# EAGLE library part SAM4EXE (library borkedlabs-micros)
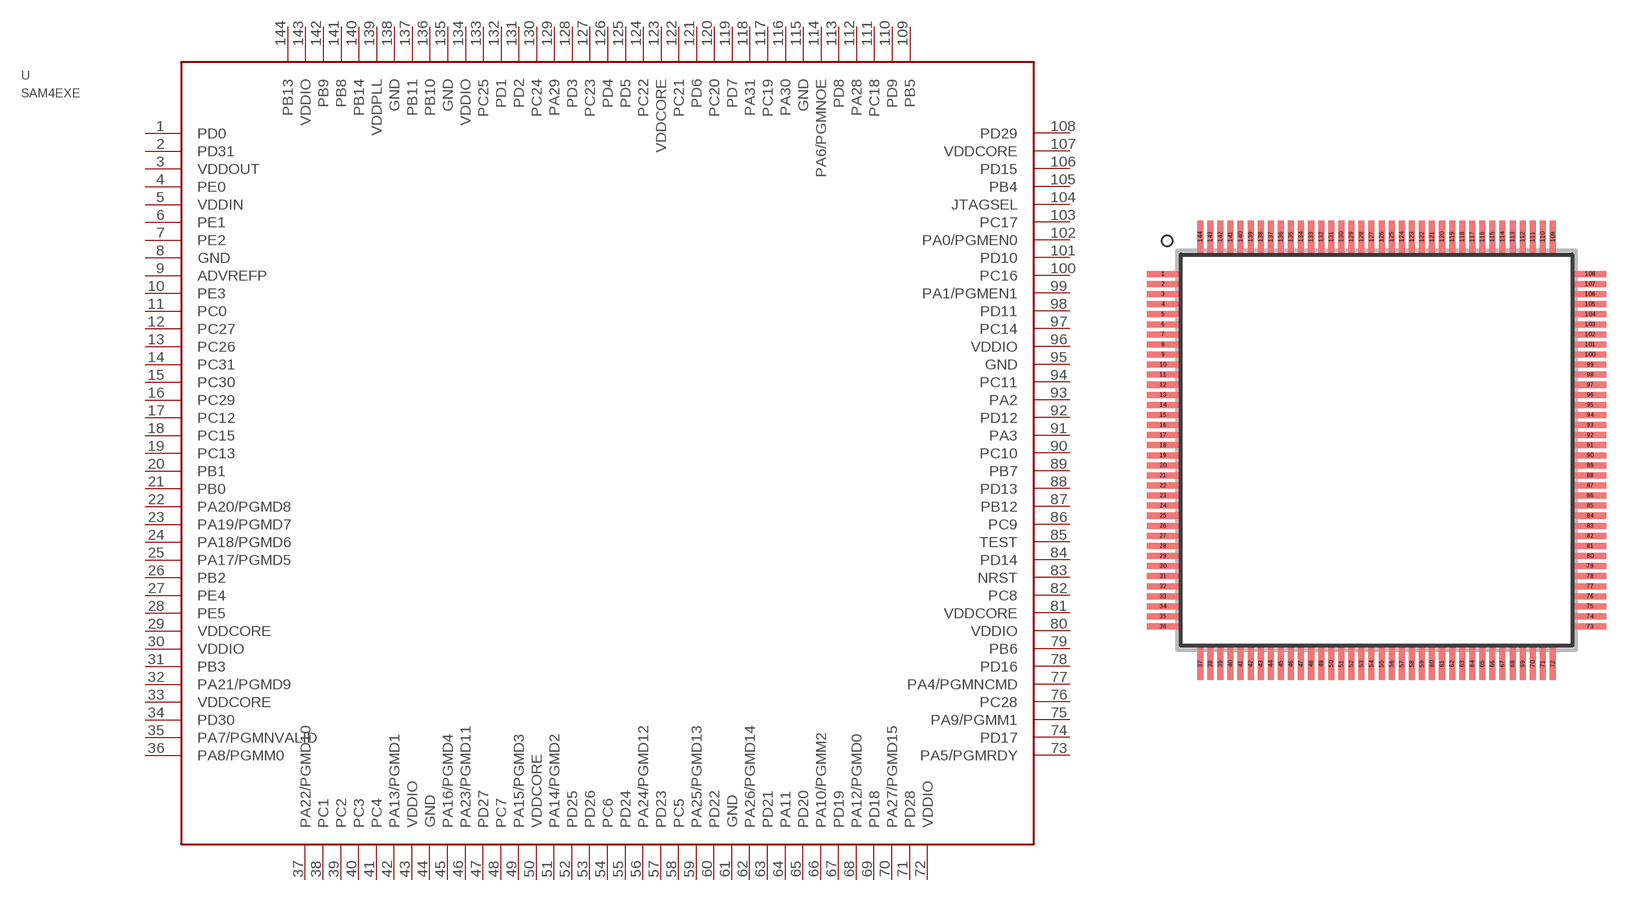
[diagram p7: symbol with the pads of LQFP144; footprint LQFP144]

Designator prefix U

## SAM4EXE  [LQFP144]
1  PD0
2  PD31
3  VDDOUT
4  PE0
5  VDDIN
6  PE1
7  PE2
8  GND
9  ADVREFP
10  PE3
11  PC0
12  PC27
13  PC26
14  PC31
15  PC30
16  PC29
17  PC12
18  PC15
19  PC13
20  PB1
21  PB0
22  PA20/PGMD8
23  PA19/PGMD7
24  PA18/PGMD6
25  PA17/PGMD5
26  PB2
27  PE4
28  PE5
29  VDDCORE
30  VDDIO
31  PB3
32  PA21/PGMD9
33  VDDCORE
34  PD30
35  PA7/PGMNVALID
36  PA8/PGMM0
37  PA22/PGMD10
38  PC1
39  PC2
40  PC3
41  PC4
42  PA13/PGMD1
43  VDDIO
44  GND
45  PA16/PGMD4
46  PA23/PGMD11
47  PD27
48  PC7
49  PA15/PGMD3
50  VDDCORE
51  PA14/PGMD2
52  PD25
53  PD26
54  PC6
55  PD24
56  PA24/PGMD12
57  PD23
58  PC5
59  PA25/PGMD13
60  PD22
61  GND
62  PA26/PGMD14
63  PD21
64  PA11
65  PD20
66  PA10/PGMM2
67  PD19
68  PA12/PGMD0
69  PD18
70  PA27/PGMD15
71  PD28
72  VDDIO
73  PA5/PGMRDY
74  PD17
75  PA9/PGMM1
76  PC28
77  PA4/PGMNCMD
78  PD16
79  PB6
80  VDDIO
81  VDDCORE
82  PC8
83  NRST
84  PD14
85  TEST
86  PC9
87  PB12
88  PD13
89  PB7
90  PC10
91  PA3
92  PD12
93  PA2
94  PC11
95  GND
96  VDDIO
97  PC14
98  PD11
99  PA1/PGMEN1
100  PC16
101  PD10
102  PA0/PGMEN0
103  PC17
104  JTAGSEL
105  PB4
106  PD15
107  VDDCORE
108  PD29
109  PB5
110  PD9
111  PC18
112  PA28
113  PD8
114  PA6/PGMNOE
115  GND
116  PA30
117  PC19
118  PA31
119  PD7
120  PC20
121  PD6
122  PC21
123  VDDCORE
124  PC22
125  PD5
126  PD4
127  PC23
128  PD3
129  PA29
130  PC24
131  PD2
132  PD1
133  PC25
134  VDDIO
135  GND
136  PB10
137  PB11
138  GND
139  VDDPLL
140  PB14
141  PB8
142  PB9
143  VDDIO
144  PB13

## Footprint LQFP144 (pad centres in mm)
smd 1.6 x 0.3: 1 -10.6,8.75; 2 -10.6,8.25; 3 -10.6,7.75; 4 -10.6,7.25; 5 -10.6,6.75; 6 -10.6,6.25; 7 -10.6,5.75; 8 -10.6,5.25; 9 -10.6,4.75; 10 -10.6,4.25; 11 -10.6,3.75; 12 -10.6,3.25; 13 -10.6,2.75; 14 -10.6,2.25; 15 -10.6,1.75; 16 -10.6,1.25; 17 -10.6,0.75; 18 -10.6,0.25; 19 -10.6,-0.25; 20 -10.6,-0.75; 21 -10.6,-1.25; 22 -10.6,-1.75; 23 -10.6,-2.25; 24 -10.6,-2.75; 25 -10.6,-3.25; 26 -10.6,-3.75; 27 -10.6,-4.25; 28 -10.6,-4.75; 29 -10.6,-5.25; 30 -10.6,-5.75; 31 -10.6,-6.25; 32 -10.6,-6.75; 33 -10.6,-7.25; 34 -10.6,-7.75; 35 -10.6,-8.25; 36 -10.6,-8.75; 73 10.6,-8.75; 74 10.6,-8.25; 75 10.6,-7.75; 76 10.6,-7.25; 77 10.6,-6.75; 78 10.6,-6.25; 79 10.6,-5.75; 80 10.6,-5.25; 81 10.6,-4.75; 82 10.6,-4.25; 83 10.6,-3.75; 84 10.6,-3.25; 85 10.6,-2.75; 86 10.6,-2.25; 87 10.6,-1.75; 88 10.6,-1.25; 89 10.6,-0.75; 90 10.6,-0.25; 91 10.6,0.25; 92 10.6,0.75; 93 10.6,1.25; 94 10.6,1.75; 95 10.6,2.25; 96 10.6,2.75; 97 10.6,3.25; 98 10.6,3.75; 99 10.6,4.25; 100 10.6,4.75; 101 10.6,5.25; 102 10.6,5.75; 103 10.6,6.25; 104 10.6,6.75; 105 10.6,7.25; 106 10.6,7.75; 107 10.6,8.25; 108 10.6,8.75
smd 0.3 x 1.6: 37 -8.75,-10.6; 38 -8.25,-10.6; 39 -7.75,-10.6; 40 -7.25,-10.6; 41 -6.75,-10.6; 42 -6.25,-10.6; 43 -5.75,-10.6; 44 -5.25,-10.6; 45 -4.75,-10.6; 46 -4.25,-10.6; 47 -3.75,-10.6; 48 -3.25,-10.6; 49 -2.75,-10.6; 50 -2.25,-10.6; 51 -1.75,-10.6; 52 -1.25,-10.6; 53 -0.75,-10.6; 54 -0.25,-10.6; 55 0.25,-10.6; 56 0.75,-10.6; 57 1.25,-10.6; 58 1.75,-10.6; 59 2.25,-10.6; 60 2.75,-10.6; 61 3.25,-10.6; 62 3.75,-10.6; 63 4.25,-10.6; 64 4.75,-10.6; 65 5.25,-10.6; 66 5.75,-10.6; 67 6.25,-10.6; 68 6.75,-10.6; 69 7.25,-10.6; 70 7.75,-10.6; 71 8.25,-10.6; 72 8.75,-10.6; 109 8.75,10.6; 110 8.25,10.6; 111 7.75,10.6; 112 7.25,10.6; 113 6.75,10.6; 114 6.25,10.6; 115 5.75,10.6; 116 5.25,10.6; 117 4.75,10.6; 118 4.25,10.6; 119 3.75,10.6; 120 3.25,10.6; 121 2.75,10.6; 122 2.25,10.6; 123 1.75,10.6; 124 1.25,10.6; 125 0.75,10.6; 126 0.25,10.6; 127 -0.25,10.6; 128 -0.75,10.6; 129 -1.25,10.6; 130 -1.75,10.6; 131 -2.25,10.6; 132 -2.75,10.6; 133 -3.25,10.6; 134 -3.75,10.6; 135 -4.25,10.6; 136 -4.75,10.6; 137 -5.25,10.6; 138 -5.75,10.6; 139 -6.25,10.6; 140 -6.75,10.6; 141 -7.25,10.6; 142 -7.75,10.6; 143 -8.25,10.6; 144 -8.75,10.6